# EAGLE library part EPCS16 (library altera-configuration)
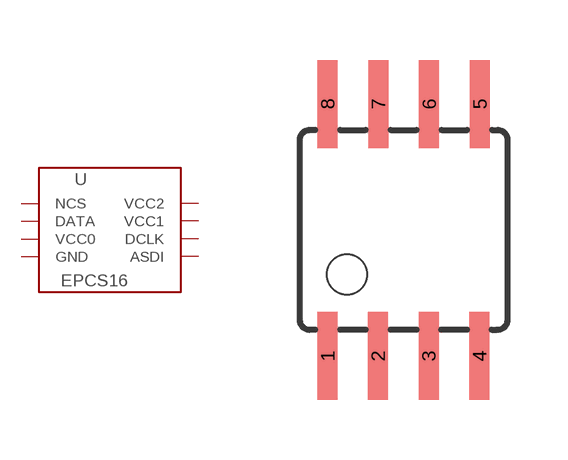
[diagram p0: symbol with the pads of SOIC8; footprint SOIC8]

Designator prefix -

## EPCS16  [SOIC8]
1  NCS
2  DATA
3  VCC0
4  GND
5  ASDI
6  DCLK
7  VCC1
8  VCC2

## Footprint SOIC8 (pad centres in mm)
smd 0.5 x 2.2: 1 -1.905,-3.154; 2 -0.645,-3.154; 3 0.625,-3.154; 4 1.895,-3.154; 5 1.905,3.154; 6 0.635,3.154; 7 -0.635,3.154; 8 -1.905,3.154